# EAGLE library part VIDEO_SWITCH_AD8191ASTZ (library !GPLIB_ACTIVE)
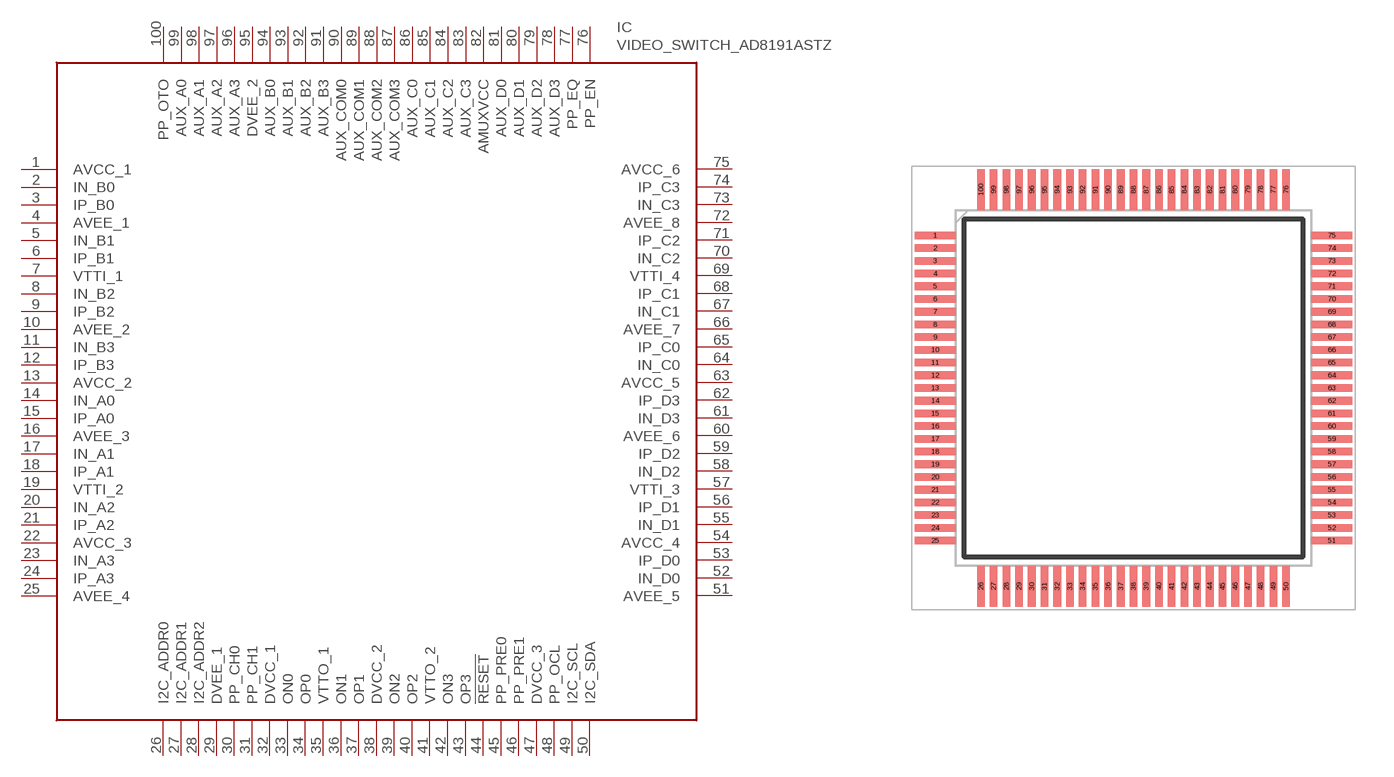
[diagram p50: symbol with the pads of QFP50P1600X1600X160-100N; footprint QFP50P1600X1600X160-100N]

Designator prefix IC

## VIDEO_SWITCH_AD8191ASTZ  [QFP50P1600X1600X160-100N]
1  AVCC_1  pwr
2  IN_B0
3  IP_B0
4  AVEE_1  pwr
5  IN_B1
6  IP_B1
7  VTTI_1
8  IN_B2
9  IP_B2
10  AVEE_2  pwr
11  IN_B3
12  IP_B3
13  AVCC_2  pwr
14  IN_A0
15  IP_A0
16  AVEE_3  pwr
17  IN_A1
18  IP_A1
19  VTTI_2
20  IN_A2
21  IP_A2
22  AVCC_3  pwr
23  IN_A3
24  IP_A3
25  AVEE_4  pwr
26  I2C_ADDR0
27  I2C_ADDR1
28  I2C_ADDR2
29  DVEE_1  pwr
30  PP_CH0
31  PP_CH1
32  DVCC_1
33  ON0
34  OP0
35  VTTO_1
36  ON1
37  OP1
38  DVCC_2
39  ON2
40  OP2
41  VTTO_2
42  ON3
43  OP3
44  !RESET
45  PP_PRE0
46  PP_PRE1
47  DVCC_3  pwr
48  PP_OCL
49  I2C_SCL
50  I2C_SDA
51  AVEE_5  pwr
52  IN_D0
53  IP_D0
54  AVCC_4  pwr
55  IN_D1
56  IP_D1
57  VTTI_3
58  IN_D2
59  IP_D2
60  AVEE_6  pwr
61  IN_D3
62  IP_D3
63  AVCC_5  pwr
64  IN_C0
65  IP_C0
66  AVEE_7  pwr
67  IN_C1
68  IP_C1
69  VTTI_4
70  IN_C2
71  IP_C2
72  AVEE_8  pwr
73  IN_C3
74  IP_C3
75  AVCC_6  pwr
76  PP_EN
77  PP_EQ
78  AUX_D3
79  AUX_D2
80  AUX_D1
81  AUX_D0
82  AMUXVCC
83  AUX_C3
84  AUX_C2
85  AUX_C1
86  AUX_C0
87  AUX_COM3
88  AUX_COM2
89  AUX_COM1
90  AUX_COM0
91  AUX_B3
92  AUX_B2
93  AUX_B1
94  AUX_B0
95  DVEE_2
96  AUX_A3
97  AUX_A2
98  AUX_A1
99  AUX_A0
100  PP_OTO

## Footprint QFP50P1600X1600X160-100N (pad centres in mm)
smd 1.6 x 0.3: 1 -7.8,6; 2 -7.8,5.5; 3 -7.8,5; 4 -7.8,4.5; 5 -7.8,4; 6 -7.8,3.5; 7 -7.8,3; 8 -7.8,2.5; 9 -7.8,2; 10 -7.8,1.5; 11 -7.8,1; 12 -7.8,0.5; 13 -7.8,0; 14 -7.8,-0.5; 15 -7.8,-1; 16 -7.8,-1.5; 17 -7.8,-2; 18 -7.8,-2.5; 19 -7.8,-3; 20 -7.8,-3.5; 21 -7.8,-4; 22 -7.8,-4.5; 23 -7.8,-5; 24 -7.8,-5.5; 25 -7.8,-6; 51 7.8,-6; 52 7.8,-5.5; 53 7.8,-5; 54 7.8,-4.5; 55 7.8,-4; 56 7.8,-3.5; 57 7.8,-3; 58 7.8,-2.5; 59 7.8,-2; 60 7.8,-1.5; 61 7.8,-1; 62 7.8,-0.5; 63 7.8,0; 64 7.8,0.5; 65 7.8,1; 66 7.8,1.5; 67 7.8,2; 68 7.8,2.5; 69 7.8,3; 70 7.8,3.5; 71 7.8,4; 72 7.8,4.5; 73 7.8,5; 74 7.8,5.5; 75 7.8,6
smd 0.3 x 1.6: 26 -6,-7.8; 27 -5.5,-7.8; 28 -5,-7.8; 29 -4.5,-7.8; 30 -4,-7.8; 31 -3.5,-7.8; 32 -3,-7.8; 33 -2.5,-7.8; 34 -2,-7.8; 35 -1.5,-7.8; 36 -1,-7.8; 37 -0.5,-7.8; 38 0,-7.8; 39 0.5,-7.8; 40 1,-7.8; 41 1.5,-7.8; 42 2,-7.8; 43 2.5,-7.8; 44 3,-7.8; 45 3.5,-7.8; 46 4,-7.8; 47 4.5,-7.8; 48 5,-7.8; 49 5.5,-7.8; 50 6,-7.8; 76 6,7.8; 77 5.5,7.8; 78 5,7.8; 79 4.5,7.8; 80 4,7.8; 81 3.5,7.8; 82 3,7.8; 83 2.5,7.8; 84 2,7.8; 85 1.5,7.8; 86 1,7.8; 87 0.5,7.8; 88 0,7.8; 89 -0.5,7.8; 90 -1,7.8; 91 -1.5,7.8; 92 -2,7.8; 93 -2.5,7.8; 94 -3,7.8; 95 -3.5,7.8; 96 -4,7.8; 97 -4.5,7.8; 98 -5,7.8; 99 -5.5,7.8; 100 -6,7.8